# Altium schematic symbol library SC16IS750IBS.SchLib: 1 symbol
Pins are listed as number, name and electrical type; pins without a type are passive.

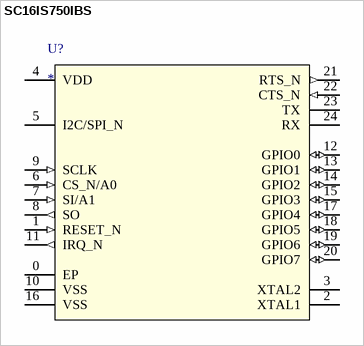
[diagram p0: symbol SC16IS750IBS]

## SC16IS750IBS
designator U?
pins: 0 EP, 1 RESET_N (in), 2 XTAL1, 3 XTAL2, 4 VDD (power), 5 I2C/SPI_N, 6 CS_N/A0 (in), 7 SI/A1 (in), 8 SO (out), 9 SCLK (in), 10 VSS, 11 IRQ_N (out), 12 GPIO0 (io), 13 GPIO1 (io), 14 GPIO2 (io), 15 GPIO3 (io), 16 VSS, 17 GPIO4 (io), 18 GPIO5 (io), 19 GPIO6 (io), 20 GPIO7 (io), 21 RTS_N (out), 22 CTS_N (in), 23 TX, 24 RX